# Altium footprint library Connectors THD.PcbLib: 18 footprints (part 1 of 2)
Each footprint in its own frame and in the unit in brackets; x right, y up, seen from the top. Pads: shape width x height; smd on the part's side, far side on the other; paste and mask are expansions set on the pad; w line width, h text height; cw(c..) or ccw(c..) is an arc to the next point about the centre after c.
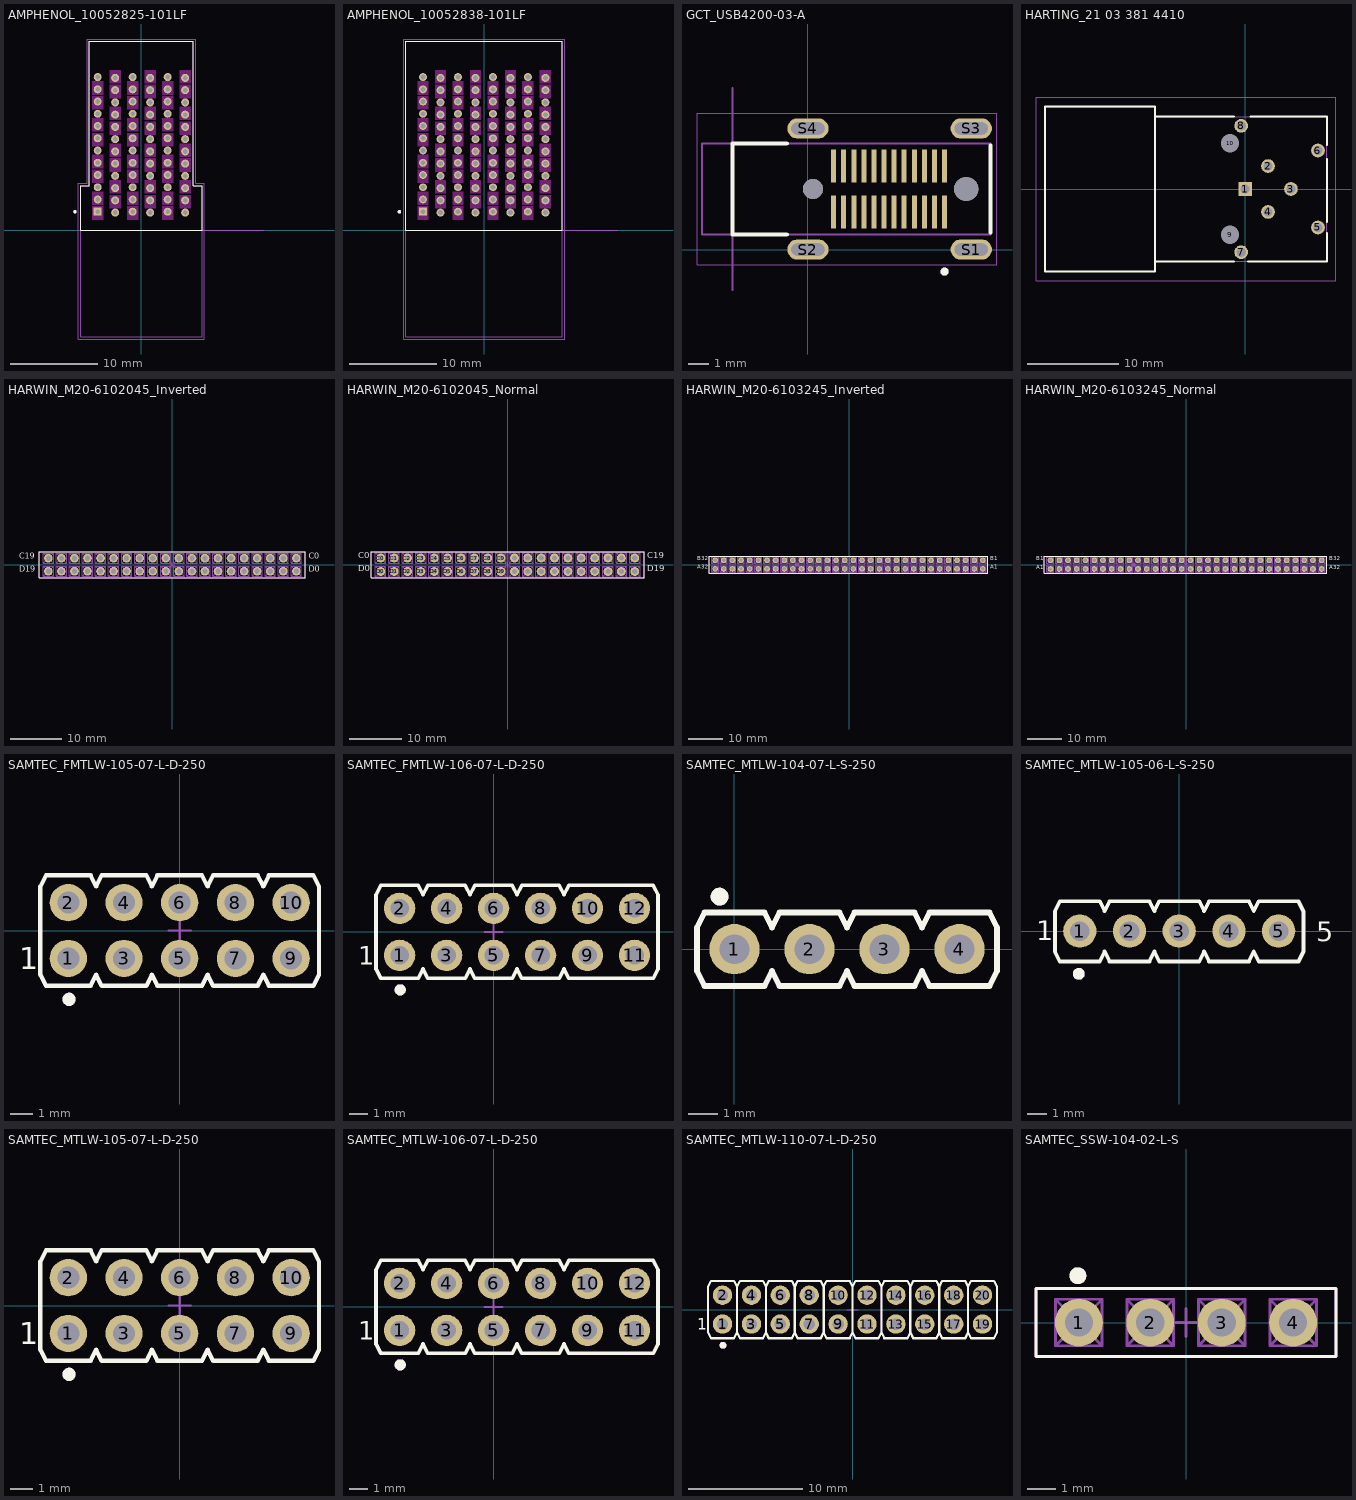
[diagram p0: the footprints below, top view; thin cyan lines are the x and y axes]

## AMPHENOL_10052825-101LF [mm]
height 15.35
pads (72):
  rect 0.914x0.914 / inner round 0.914 / far side rect 0.914x0.914 hole 0.55: A1(-5,2.1)
  round 0.914 hole 0.55: A2(-3,2) A3(-1,2.1) A4(1,2) A5(3,2.1) A6(5,2) B1(-5,3.5) B2(-3,3.4) B3(-1,3.5) B4(1,3.4) B5(3,3.5) B6(5,3.4) C1(-5,4.9) C2(-3,4.8) C3(-1,4.9) C4(1,4.8) C5(3,4.9) C6(5,4.8) D1(-5,6.3) D2(-3,6.2) D3(-1,6.3) D4(1,6.2) D5(3,6.3) D6(5,6.2) E1(-5,7.7) E2(-3,7.6) E3(-1,7.7) E4(1,7.6) E5(3,7.7) E6(5,7.6) F1(-5,9.1) F2(-3,9) F3(-1,9.1) F4(1,9) F5(3,9.1) F6(5,9) G1(-5,10.5) G2(-3,10.4) G3(-1,10.5) G4(1,10.4) G5(3,10.5) G6(5,10.4) H1(-5,11.9) H2(-3,11.8) H3(-1,11.9) H4(1,11.8) H5(3,11.9) H6(5,11.8) I1(-5,13.3) I2(-3,13.2) I3(-1,13.3) I4(1,13.2) I5(3,13.3) I6(5,13.2) J1(-5,14.7) J2(-3,14.6) J3(-1,14.7) J4(1,14.6) J5(3,14.7) J6(5,14.6) K1(-5,16.1) K2(-3,16) K3(-1,16.1) K4(1,16) K5(3,16.1) K6(5,16) L1(-5,17.5) L2(-3,17.4) L3(-1,17.5) L4(1,17.4) L5(3,17.5) L6(5,17.4)
Top Overlay:
  circle w0.2: c-7.6,2.1 r0.1
  lines w0.127: -6.95,0 6.95,0 6.95,5.1 5.95,5.1 5.95,21.6 -5.95,21.6 -5.95,5.1 -6.95,5.1 -6.95,0
Keep-Out Layer:
  drawing of 96 lines, arcs and shapes, not listed
Mechanical 13:
  circle w0.2: c-7.6,2.1 r0.1
  lines w0.127: 14,0 -6.95,0 ; -6.95,0 -6.95,-12.2 6.95,-12.2 6.95,5.1 5.95,5.1 5.95,21.6 -5.95,21.6 -5.95,5.1 -6.95,5.1 -6.95,0
  text "PCB Edge" at 7.3,0.25 h1
Mechanical 15:
  lines w0.05: -7.2,-12.45 7.2,-12.45 7.2,5.35 6.2,5.35 6.2,21.85 -6.2,21.85 -6.2,5.35 -7.2,5.35 -7.2,-12.45
3D body "step_temp.STEP": height 15.25, standoff -4.45, extent -6.95,-12.2 6.95,21.6

## AMPHENOL_10052838-101LF [mm]
height 15.35
pads (96):
  rect 0.914x0.914 / inner round 0.914 / far side rect 0.914x0.914 hole 0.55: A1(-7,2.1)
  round 0.914 hole 0.55: A2(-5,2) A3(-3,2.1) A4(-1,2) A5(1,2.1) A6(3,2) A7(5,2.1) A8(7,2) B1(-7,3.5) B2(-5,3.4) B3(-3,3.5) B4(-1,3.4) B5(1,3.5) B6(3,3.4) B7(5,3.5) B8(7,3.4) C1(-7,4.9) C2(-5,4.8) C3(-3,4.9) C4(-1,4.8) C5(1,4.9) C6(3,4.8) C7(5,4.9) C8(7,4.8) D1(-7,6.3) D2(-5,6.2) D3(-3,6.3) D4(-1,6.2) D5(1,6.3) D6(3,6.2) D7(5,6.3) D8(7,6.2) E1(-7,7.7) E2(-5,7.6) E3(-3,7.7) E4(-1,7.6) E5(1,7.7) E6(3,7.6) E7(5,7.7) E8(7,7.6) F1(-7,9.1) F2(-5,9) F3(-3,9.1) F4(-1,9) F5(1,9.1) F6(3,9) F7(5,9.1) F8(7,9) G1(-7,10.5) G2(-5,10.4) G3(-3,10.5) G4(-1,10.4) G5(1,10.5) G6(3,10.4) G7(5,10.5) G8(7,10.4) H1(-7,11.9) H2(-5,11.8) H3(-3,11.9) H4(-1,11.8) H5(1,11.9) H6(3,11.8) H7(5,11.9) H8(7,11.8) I1(-7,13.3) I2(-5,13.2) I3(-3,13.3) I4(-1,13.2) I5(1,13.3) I6(3,13.2) I7(5,13.3) I8(7,13.2) J1(-7,14.7) J2(-5,14.6) J3(-3,14.7) J4(-1,14.6) J5(1,14.7) J6(3,14.6) J7(5,14.7) J8(7,14.6) K1(-7,16.1) K2(-5,16) K3(-3,16.1) K4(-1,16) K5(1,16.1) K6(3,16) K7(5,16.1) K8(7,16) L1(-7,17.5) L2(-5,17.4) L3(-3,17.5) L4(-1,17.4) L5(1,17.5) L6(3,17.4) L7(5,17.5) L8(7,17.4)
Top Overlay:
  circle w0.2: c-9.7,2.1 r0.1
  lines w0.127: -8.95,0 8.95,0 8.95,21.6 -8.95,21.6 -8.95,0
Keep-Out Layer:
  drawing of 128 lines, arcs and shapes, not listed
Mechanical 13:
  circle w0.2: c-9.7,2.1 r0.1
  lines w0.127: 15.24,0 8.95,0 ; -8.95,0 8.89,0 8.95,0 ; -8.95,0 -8.95,-12.2 8.95,-12.2 8.95,0 ; -8.95,0 -8.95,21.6 8.95,21.6 8.95,0
  text "PCB Edge" at 9.5,0.25 h1
Mechanical 15:
  lines w0.05: -9.2,-12.45 9.2,-12.45 9.2,21.85 -9.2,21.85 -9.2,-12.45
3D body "step_temp.STEP": height 15.25, standoff -4.45, extent -8.95,-12.2 8.95,21.6

## GCT_USB4200-03-A [mm]
height 10.13
pads (30):
  rect 0.25x1.625 smd: A1(6.775,1.862) A2(6.275,1.862) A3(5.775,1.862) A4(5.275,1.862) A5(4.775,1.862) A6(4.275,1.862) A7(3.775,1.862) A8(3.275,1.862) A9(2.775,1.862) A10(2.275,1.862) A11(1.775,1.862) A12(1.275,1.862) B1(1.275,4.137) B2(1.775,4.137) B3(2.275,4.137) B4(2.775,4.137) B5(3.275,4.137) B6(3.775,4.137) B7(4.275,4.137) B8(4.775,4.137) B9(5.275,4.137) B10(5.775,4.137) B11(6.275,4.137) B12(6.775,4.137)
  oval 2.05x1 hole 0.6 slot 1.65 at 0 deg: S1(8.1,0) S2(0,0) S3(8.1,6) S4(0,6)
  round 1 hole 1 unplated: ""(0.25,3)
  round 1.2 hole 1.2 unplated: ""(7.85,3)
Top Overlay:
  circle w0.2: c6.775,-1.1 r0.1
  lines w0.2: -1.05,0.74 -3.75,0.74 -3.75,5.26 -1.05,5.26 ; 9.05,0.85 9.05,5.15
Mechanical 13:
  circle w0.2: c6.775,-1.1 r0.1
  lines w0.1: -3.75,-2 -3.75,8 ; -5.25,0.74 -5.25,5.26 9.05,5.26 9.05,0.74 -5.25,0.74
  text "PCB EDGE" at -3.45,-1 h0.81
Mechanical 15:
  lines w0.05: -5.5,-0.75 9.375,-0.75 9.375,6.75 -5.5,6.75 -5.5,-0.75
3D body "USB4200-03-A.stp": height 9.8, standoff -1.73, extent -5.259,-0.125 9.041,6.175

## HARTING_21 03 381 4410 [mm]
pads (10):
  rect 1.5x1.5 hole 1: 1(0,0)
  round 1.5 hole 1: 2(2.5,2.5) 3(5,0) 4(2.5,-2.5) 5(7.95,-4.2) 6(7.95,4.2) 7(-0.43,-6.9) 8(-0.43,6.9)
  round 1 hole 2 unplated: 9(-1.65,-5) 10(-1.65,5)
Top Overlay:
  lines w0.2: -1.2,-7.9 -9.83,-7.9 ; -1.2,7.9 -9.83,7.9 ; 0.3,-7.9 8.92,-7.9 8.92,-4.8 ; 0.6,7.9 8.92,7.9 8.92,4.8 ; 8.92,-3.6 8.92,3.3 ; -9.83,-7.9 -9.83,-9 -21.83,-9 -21.83,9 -9.83,9 -9.83,7.9 ; -9.83,-7.9 -9.83,7.9
Mechanical 13:
  lines w0.1: -9.83,-7.9 8.92,-7.9 8.92,7.9 -9.83,7.9 ; -9.83,-7.9 -9.83,7.9 ; -9.83,-7.9 -9.83,-9 -21.83,-9 -21.83,9 -9.83,9 -9.83,7.9
Mechanical 15:
  lines w0.1: -22.83,-10 9.92,-10 9.92,10 -22.83,10 -22.83,-10
3D body "21033814410.stp": height 14.87, standoff -3.25, extent -35.713,-9.5 8.92,9.5

## HARWIN_M20-6102045_Inverted [mm] "40 Ways, Dual Row, 2.54mm Pitch, PC/104 Stackthrough Connector"
height 11.05
pads (40):
  round 1.7 hole 1: C0(24.13,1.27) C1(21.59,1.27) C2(19.05,1.27) C3(16.51,1.27) C4(13.97,1.27) C5(11.43,1.27) C6(8.89,1.27) C7(6.35,1.27) C8(3.81,1.27) C9(1.27,1.27) C10(-1.27,1.27) C11(-3.81,1.27) C12(-6.35,1.27) C13(-8.89,1.27) C14(-11.43,1.27) C15(-13.97,1.27) C16(-16.51,1.27) C17(-19.05,1.27) C18(-21.59,1.27) C19(-24.13,1.27) D0(24.13,-1.27) D1(21.59,-1.27) D2(19.05,-1.27) D3(16.51,-1.27) D4(13.97,-1.27) D5(11.43,-1.27) D6(8.89,-1.27) D7(6.35,-1.27) D8(3.81,-1.27) D9(1.27,-1.27) D10(-1.27,-1.27) D11(-3.81,-1.27) D12(-6.35,-1.27) D13(-8.89,-1.27) D14(-11.43,-1.27) D15(-13.97,-1.27) D16(-16.51,-1.27) D17(-19.05,-1.27) D18(-21.59,-1.27) D19(-24.13,-1.27)
Top Overlay:
  lines w0.2: -25.91,-2.5 25.91,-2.5 25.91,2.5 -25.91,2.5 -25.91,-2.5
  text "C0" at 26.543,0.791 h2
  text "D0" at 26.543,-1.749 h2
  text "C19" at -29.845,0.791 h2
  text "D19" at -29.845,-1.749 h2
Mechanical 8:
  drawing of 164 lines, arcs and shapes, not listed
Mechanical 14:
  drawing of 484 lines, arcs and shapes, not listed
3D body "HARWIN_M20-6102045.stp": height 11.05, standoff -12.2, extent -25.91,-2.625 25.91,2.625

## HARWIN_M20-6102045_Normal [mm] "40 Ways, Dual Row, 2.54mm Pitch, PC/104 Stackthrough Connector"
height 11.05
pads (40):
  round 1.7 hole 1: C0(-24.13,1.27) C1(-21.59,1.27) C2(-19.05,1.27) C3(-16.51,1.27) C4(-13.97,1.27) C5(-11.43,1.27) C6(-8.89,1.27) C7(-6.35,1.27) C8(-3.81,1.27) C9(-1.27,1.27) C10(1.27,1.27) C11(3.81,1.27) C12(6.35,1.27) C13(8.89,1.27) C14(11.43,1.27) C15(13.97,1.27) C16(16.51,1.27) C17(19.05,1.27) C18(21.59,1.27) C19(24.13,1.27) D0(-24.13,-1.27) D1(-21.59,-1.27) D2(-19.05,-1.27) D3(-16.51,-1.27) D4(-13.97,-1.27) D5(-11.43,-1.27) D6(-8.89,-1.27) D7(-6.35,-1.27) D8(-3.81,-1.27) D9(-1.27,-1.27) D10(1.27,-1.27) D11(3.81,-1.27) D12(6.35,-1.27) D13(8.89,-1.27) D14(11.43,-1.27) D15(13.97,-1.27) D16(16.51,-1.27) D17(19.05,-1.27) D18(21.59,-1.27) D19(24.13,-1.27)
Top Overlay:
  lines w0.2: -25.91,-2.5 -25.91,2.5 25.91,2.5 25.91,-2.5 -25.91,-2.5
  text "C19" at 26.543,0.77 h2
  text "C0" at -28.448,0.783 h2
  text "D19" at 26.543,-1.749 h2
  text "D0" at -28.448,-1.749 h2
Mechanical 8:
  drawing of 164 lines, arcs and shapes, not listed
Mechanical 14:
  drawing of 484 lines, arcs and shapes, not listed
3D body "HARWIN_M20-6102045.stp": height 11.05, standoff -12.2, extent -25.91,-2.625 25.91,2.625

## HARWIN_M20-6103245_Inverted [mm] "64 Ways, Dual Row, 2.54mm Pitch, PC/104 Stackthrough Connector"
height 11.05
pads (64):
  round 1.7 hole 1: A1(39.37,-1.27) A2(36.83,-1.27) A3(34.29,-1.27) A4(31.75,-1.27) A5(29.21,-1.27) A6(26.67,-1.27) A7(24.13,-1.27) A8(21.59,-1.27) A9(19.05,-1.27) A10(16.51,-1.27) A11(13.97,-1.27) A12(11.43,-1.27) A13(8.89,-1.27) A14(6.35,-1.27) A15(3.81,-1.27) A16(1.27,-1.27) A17(-1.27,-1.27) A18(-3.81,-1.27) A19(-6.35,-1.27) A20(-8.89,-1.27) A21(-11.43,-1.27) A22(-13.97,-1.27) A23(-16.51,-1.27) A24(-19.05,-1.27) A25(-21.59,-1.27) A26(-24.13,-1.27) A27(-26.67,-1.27) A28(-29.21,-1.27) A29(-31.75,-1.27) A30(-34.29,-1.27) A31(-36.83,-1.27) A32(-39.37,-1.27) B1(39.37,1.27) B2(36.83,1.27) B3(34.29,1.27) B4(31.75,1.27) B5(29.21,1.27) B6(26.67,1.27) B7(24.13,1.27) B8(21.59,1.27) B9(19.05,1.27) B10(16.51,1.27) B11(13.97,1.27) B12(11.43,1.27) B13(8.89,1.27) B14(6.35,1.27) B15(3.81,1.27) B16(1.27,1.27) B17(-1.27,1.27) B18(-3.81,1.27) B19(-6.35,1.27) B20(-8.89,1.27) B21(-11.43,1.27) B22(-13.97,1.27) B23(-16.51,1.27) B24(-19.05,1.27) B25(-21.59,1.27) B26(-24.13,1.27) B27(-26.67,1.27) B28(-29.21,1.27) B29(-31.75,1.27) B30(-34.29,1.27) B31(-36.83,1.27) B32(-39.37,1.27)
Top Overlay:
  lines w0.2: -41.15,-2.5 -41.15,2.5 40.81,2.5 40.81,-2.5 -41.15,-2.5
  text "B1" at 41.528,0.87 h2
  text "A1" at 41.528,-1.67 h2
  text "A32" at -44.705,-1.647 h2
  text "B32" at -44.704,0.793 h2
Mechanical 8:
  drawing of 164 lines, arcs and shapes, not listed
Mechanical 14:
  drawing of 772 lines, arcs and shapes, not listed
3D body "HARWIN_M20-6103245.stp": height 11.06, standoff -12.36, extent -41.15,-2.5 40.79,2.5

## HARWIN_M20-6103245_Normal [mm] "64 Ways, Dual Row, 2.54mm Pitch, PC/104 Stackthrough Connector"
height 11.05
pads (64):
  round 1.7 hole 1: A1(-39.37,-1.27) A2(-36.83,-1.27) A3(-34.29,-1.27) A4(-31.75,-1.27) A5(-29.21,-1.27) A6(-26.67,-1.27) A7(-24.13,-1.27) A8(-21.59,-1.27) A9(-19.05,-1.27) A10(-16.51,-1.27) A11(-13.97,-1.27) A12(-11.43,-1.27) A13(-8.89,-1.27) A14(-6.35,-1.27) A15(-3.81,-1.27) A16(-1.27,-1.27) A17(1.27,-1.27) A18(3.81,-1.27) A19(6.35,-1.27) A20(8.89,-1.27) A21(11.43,-1.27) A22(13.97,-1.27) A23(16.51,-1.27) A24(19.05,-1.27) A25(21.59,-1.27) A26(24.13,-1.27) A27(26.67,-1.27) A28(29.21,-1.27) A29(31.75,-1.27) A30(34.29,-1.27) A31(36.83,-1.27) A32(39.37,-1.27) B1(-39.37,1.27) B2(-36.83,1.27) B3(-34.29,1.27) B4(-31.75,1.27) B5(-29.21,1.27) B6(-26.67,1.27) B7(-24.13,1.27) B8(-21.59,1.27) B9(-19.05,1.27) B10(-16.51,1.27) B11(-13.97,1.27) B12(-11.43,1.27) B13(-8.89,1.27) B14(-6.35,1.27) B15(-3.81,1.27) B16(-1.27,1.27) B17(1.27,1.27) B18(3.81,1.27) B19(6.35,1.27) B20(8.89,1.27) B21(11.43,1.27) B22(13.97,1.27) B23(16.51,1.27) B24(19.05,1.27) B25(21.59,1.27) B26(24.13,1.27) B27(26.67,1.27) B28(29.21,1.27) B29(31.75,1.27) B30(34.29,1.27) B31(36.83,1.27) B32(39.37,1.27)
Top Overlay:
  lines w0.2: -41.15,-2.5 -41.15,2.5 40.81,2.5 40.81,-2.5 -41.15,-2.5
  text "B1" at -43.561,0.77 h2
  text "A1" at -43.562,-1.77 h2
  text "A32" at 41.528,-1.776 h2
  text "B32" at 41.529,0.872 h2
Mechanical 8:
  drawing of 164 lines, arcs and shapes, not listed
Mechanical 14:
  drawing of 772 lines, arcs and shapes, not listed
3D body "HARWIN_M20-6103245.stp": height 11.06, standoff -12.36, extent -41.15,-2.5 40.79,2.5

## SAMTEC_FMTLW-105-07-L-D-250 [mm] "10 Sockets - Pitch 2.54mm - Dual Row Through Mount Straight Sockets (Post Lead = 6.35mm, Tail Lead 3.05mm, Insulator 1.52mm)"
height 7.87
pads (10):
  round 1.7 hole 1: 1(-5.08,-1.27) 2(-5.08,1.27) 3(-2.54,-1.27) 4(-2.54,1.27) 5(0,-1.27) 6(0,1.27) 7(2.54,-1.27) 8(2.54,1.27) 9(5.08,-1.27) 10(5.08,1.27)
Top Overlay:
  circle w0.3: c-5.045,-3.135 r0.15
  lines w0.2: -6.35,-2.007 -6.096,-2.515 -4.064,-2.515 -3.81,-2.007 -3.556,-2.515 -1.524,-2.515 -1.27,-2.007 -1.016,-2.515 1.016,-2.515 1.27,-2.007 1.524,-2.515 3.556,-2.515 3.81,-2.007 4.064,-2.515 6.096,-2.515 6.35,-2.007 6.35,2.007 6.096,2.515 4.064,2.515 3.81,2.007 3.556,2.515 1.524,2.515 1.27,2.007 1.016,2.515 -1.016,2.515 -1.27,2.007 -1.524,2.515 -3.556,2.515 -3.81,2.007 -4.064,2.515 -6.096,2.515 -6.35,2.007 -6.35,-2.007
  text "1" at -7.327,-1.768 h1
Mechanical 8:
  lines w0.1: -5.58,-1.27 -5.08,-1.27 ; -5.58,1.27 -5.08,1.27 ; -5.08,-1.77 -5.08,-1.27 ; -5.08,-0.77 -5.08,-1.27 ; -5.08,0.77 -5.08,1.27 ; -5.08,1.77 -5.08,1.27 ; -4.58,-1.27 -5.08,-1.27 ; -4.58,1.27 -5.08,1.27 ; -3.04,-1.27 -2.54,-1.27 ; -3.04,1.27 -2.54,1.27 ; -2.54,-1.77 -2.54,-1.27 ; -2.54,-0.77 -2.54,-1.27 ; -2.54,0.77 -2.54,1.27 ; -2.54,1.77 -2.54,1.27 ; -2.04,-1.27 -2.54,-1.27 ; -2.04,1.27 -2.54,1.27 ; -0.5,-1.27 0,-1.27 ; -0.5,0 0,0 ; -0.5,1.27 0,1.27 ; 0,-1.77 0,-1.27 ; 0,-0.77 0,-1.27 ; 0,-0.5 0,0 ; 0,0.5 0,0 ; 0,0.77 0,1.27 ; 0,1.77 0,1.27 ; 0.5,-1.27 0,-1.27 ; 0.5,0 0,0 ; 0.5,1.27 0,1.27 ; 2.04,-1.27 2.54,-1.27 ; 2.04,1.27 2.54,1.27 ; 2.54,-1.77 2.54,-1.27 ; 2.54,-0.77 2.54,-1.27 ; 2.54,0.77 2.54,1.27 ; 2.54,1.77 2.54,1.27 ; 3.04,-1.27 2.54,-1.27 ; 3.04,1.27 2.54,1.27 ; 4.58,-1.27 5.08,-1.27 ; 4.58,1.27 5.08,1.27 ; 5.08,-1.77 5.08,-1.27 ; 5.08,-0.77 5.08,-1.27 ; 5.08,0.77 5.08,1.27 ; 5.08,1.77 5.08,1.27 ; 5.58,-1.27 5.08,-1.27 ; 5.58,1.27 5.08,1.27
Mechanical 14:
  circle w0.3: c-5.045,-3.135 r0.15
  lines w0.1: -6.35,-2.007 -6.096,-2.515 -4.064,-2.515 -3.81,-2.007 -3.556,-2.515 -1.524,-2.515 -1.27,-2.007 -1.016,-2.515 1.016,-2.515 1.27,-2.007 1.524,-2.515 3.556,-2.515 3.81,-2.007 4.064,-2.515 6.096,-2.515 6.35,-2.007 6.35,2.007 6.096,2.515 4.064,2.515 3.81,2.007 3.556,2.515 1.524,2.515 1.27,2.007 1.016,2.515 -1.016,2.515 -1.27,2.007 -1.524,2.515 -3.556,2.515 -3.81,2.007 -4.064,2.515 -6.096,2.515 -6.35,2.007 -6.35,-2.007 ; -5.397,-1.587 -4.762,-1.587 -4.762,-0.953 -5.397,-0.953 -5.397,-1.587 ; -5.397,0.953 -4.762,0.953 -4.762,1.587 -5.397,1.587 -5.397,0.953 ; -2.857,-1.587 -2.222,-1.587 -2.222,-0.953 -2.857,-0.953 -2.857,-1.587 ; -2.857,0.953 -2.222,0.953 -2.222,1.587 -2.857,1.587 -2.857,0.953 ; -0.317,-1.587 0.318,-1.587 0.318,-0.953 -0.317,-0.953 -0.317,-1.587 ; -0.317,0.953 0.318,0.953 0.318,1.587 -0.317,1.587 -0.317,0.953 ; 2.223,-1.587 2.858,-1.587 2.858,-0.953 2.223,-0.953 2.223,-1.587 ; 2.223,0.953 2.858,0.953 2.858,1.587 2.223,1.587 2.223,0.953 ; 4.763,-1.587 5.398,-1.587 5.398,-0.953 4.763,-0.953 4.763,-1.587 ; 4.763,0.953 5.398,0.953 5.398,1.587 4.763,1.587 4.763,0.953
  text "1" at -7.327,-1.768 h1
3D body "SAMTEC_MTLW-105-07-L-D-250.stp": height 7.87, standoff -3.05, extent -6.35,-2.514 6.35,2.515

## SAMTEC_FMTLW-106-07-L-D-250 [mm] "12 Contacts - Pitch 2.54mm - Dual Row Through Mount Straight Sockets (Post Lead = 6.35mm, Tail Lead 3.05mm, Insulator 1.52mm)"
height 7.87
pads (12):
  round 1.7 hole 1: 1(-5.08,-1.27) 2(-5.08,1.27) 3(-2.54,-1.27) 4(-2.54,1.27) 5(0,-1.27) 6(0,1.27) 7(2.54,-1.27) 8(2.54,1.27) 9(5.08,-1.27) 10(5.08,1.27) 11(7.62,-1.27) 12(7.62,1.27)
Top Overlay:
  circle w0.3: c-5.045,-3.135 r0.15
  lines w0.2: -6.35,-2.007 -6.35,2.007 -6.096,2.515 -4.064,2.515 -3.81,2.007 -3.556,2.515 -1.524,2.515 -1.27,2.007 -1.016,2.515 1.016,2.515 1.27,2.007 1.524,2.515 3.556,2.515 3.81,2.007 4.064,2.515 8.636,2.515 8.89,2.007 8.89,-2.007 8.636,-2.515 4.064,-2.515 3.81,-2.007 3.556,-2.515 1.524,-2.515 1.27,-2.007 1.016,-2.515 -1.016,-2.515 -1.27,-2.007 -1.524,-2.515 -3.556,-2.515 -3.81,-2.007 -4.064,-2.515 -6.096,-2.515 -6.35,-2.007
  text "1" at -7.327,-1.768 h1
Mechanical 8:
  lines w0.1: -5.58,-1.27 -5.08,-1.27 ; -5.58,1.27 -5.08,1.27 ; -5.08,-1.77 -5.08,-1.27 ; -5.08,-0.77 -5.08,-1.27 ; -5.08,0.77 -5.08,1.27 ; -5.08,1.77 -5.08,1.27 ; -4.58,-1.27 -5.08,-1.27 ; -4.58,1.27 -5.08,1.27 ; -3.04,-1.27 -2.54,-1.27 ; -3.04,1.27 -2.54,1.27 ; -2.54,-1.77 -2.54,-1.27 ; -2.54,-0.77 -2.54,-1.27 ; -2.54,0.77 -2.54,1.27 ; -2.54,1.77 -2.54,1.27 ; -2.04,-1.27 -2.54,-1.27 ; -2.04,1.27 -2.54,1.27 ; -0.5,-1.27 0,-1.27 ; -0.5,0 0,0 ; -0.5,1.27 0,1.27 ; 0,-1.77 0,-1.27 ; 0,-0.77 0,-1.27 ; 0,-0.5 0,0 ; 0,0.5 0,0 ; 0,0.77 0,1.27 ; 0,1.77 0,1.27 ; 0.5,-1.27 0,-1.27 ; 0.5,0 0,0 ; 0.5,1.27 0,1.27 ; 2.04,-1.27 2.54,-1.27 ; 2.04,1.27 2.54,1.27 ; 2.54,-1.77 2.54,-1.27 ; 2.54,-0.77 2.54,-1.27 ; 2.54,0.77 2.54,1.27 ; 2.54,1.77 2.54,1.27 ; 3.04,-1.27 2.54,-1.27 ; 3.04,1.27 2.54,1.27 ; 4.58,-1.27 5.08,-1.27 ; 4.58,1.27 5.08,1.27 ; 5.08,-1.77 5.08,-1.27 ; 5.08,-0.77 5.08,-1.27 ; 5.08,0.77 5.08,1.27 ; 5.08,1.77 5.08,1.27 ; 5.58,-1.27 5.08,-1.27 ; 5.58,1.27 5.08,1.27
Mechanical 14:
  circle w0.3: c-5.045,-3.135 r0.15
  lines w0.1: 7.302,-1.587 7.938,-1.587 ; 7.302,-1.587 7.938,-1.587 ; 7.302,-1.587 7.302,-0.953 ; 7.302,-1.587 7.302,-0.953 ; 7.302,-0.953 7.938,-0.953 ; 7.302,-0.953 7.938,-0.953 ; 7.938,-1.587 7.938,-0.953 ; 7.938,-1.587 7.938,-0.953 ; -6.35,-2.007 -6.35,2.007 -6.096,2.515 -4.064,2.515 -3.81,2.007 -3.556,2.515 -1.524,2.515 -1.27,2.007 -1.016,2.515 1.016,2.515 1.27,2.007 1.524,2.515 3.556,2.515 3.81,2.007 4.064,2.515 8.636,2.515 8.89,2.007 8.89,-2.007 8.636,-2.515 4.064,-2.515 3.81,-2.007 3.556,-2.515 1.524,-2.515 1.27,-2.007 1.016,-2.515 -1.016,-2.515 -1.27,-2.007 -1.524,-2.515 -3.556,-2.515 -3.81,-2.007 -4.064,-2.515 -6.096,-2.515 -6.35,-2.007 ; -5.397,-1.587 -5.397,-0.953 -4.762,-0.953 -4.762,-1.587 -5.397,-1.587 ; -5.397,0.953 -5.397,1.587 -4.762,1.587 -4.762,0.953 -5.397,0.953 ; -2.857,-1.587 -2.857,-0.953 -2.222,-0.953 -2.222,-1.587 -2.857,-1.587 ; -2.857,0.953 -2.857,1.587 -2.222,1.587 -2.222,0.953 -2.857,0.953 ; -0.317,-1.587 -0.317,-0.953 0.318,-0.953 0.318,-1.587 -0.317,-1.587 ; -0.317,0.953 -0.317,1.587 0.318,1.587 0.318,0.953 -0.317,0.953 ; 2.223,-1.587 2.223,-0.953 2.858,-0.953 2.858,-1.587 2.223,-1.587 ; 2.223,0.953 2.223,1.587 2.858,1.587 2.858,0.953 2.223,0.953 ; 4.763,-1.587 4.763,-0.953 5.398,-0.953 5.398,-1.587 4.763,-1.587 ; 4.763,0.953 4.763,1.587 5.398,1.587 5.398,0.953 4.763,0.953 ; 7.302,0.953 7.302,1.587 7.938,1.587 7.938,0.953 7.302,0.953
  text "1" at -7.327,-1.768 h1
3D body "SAMTEC_MTLW-105-07-L-D-250.stp": height 7.87, standoff -3.05, extent -6.35,-2.514 6.35,2.515

## SAMTEC_MTLW-104-07-L-S-250 [mm] "4 Contacts - Pitch 2.54mm - Single Row Through Mount Straight Header (Post Lead = 6.35mm, Tail Lead 3.05mm, Insulator 1.52mm)"
height 7.87
pads (4):
  round 1.7 hole 1: 1(0,0) 2(2.54,0) 3(5.08,0) 4(7.62,0)
Top Overlay:
  circle w0.3: c-0.508,1.778 r0.15
  lines w0.2: -1.27,-0.737 -1.27,0.737 -1.016,1.245 1.016,1.245 1.27,0.737 1.524,1.245 3.556,1.245 3.81,0.737 4.064,1.245 6.096,1.245 6.35,0.737 6.604,1.245 8.636,1.245 8.89,0.737 8.89,-0.737 8.636,-1.245 6.604,-1.245 6.35,-0.737 6.096,-1.245 4.064,-1.245 3.81,-0.737 3.556,-1.245 1.524,-1.245 1.27,-0.737 1.016,-1.245 -1.016,-1.245 -1.27,-0.737
Mechanical 8:
  lines w0.1: -0.5,0 0,0 ; 0,-0.5 0,0 ; 0,0.5 0,0 ; 0.5,0 0,0 ; 2.04,0 2.54,0 ; 2.54,-0.5 2.54,0 ; 2.54,0.5 2.54,0 ; 3.04,0 2.54,0 ; 4.58,0 5.08,0 ; 5.08,-0.5 5.08,0 ; 5.08,0.5 5.08,0 ; 5.58,0 5.08,0 ; 7.12,0 7.62,0 ; 7.62,-0.5 7.62,0 ; 7.62,0.5 7.62,0 ; 8.12,0 7.62,0
Mechanical 14:
  circle w0.3: c-0.508,1.778 r0.15
  lines w0.1: -1.27,-0.737 -1.27,0.737 -1.016,1.245 1.016,1.245 1.27,0.737 1.524,1.245 3.556,1.245 3.81,0.737 4.064,1.245 6.096,1.245 6.35,0.737 6.604,1.245 8.636,1.245 8.89,0.737 8.89,-0.737 8.636,-1.245 6.604,-1.245 6.35,-0.737 6.096,-1.245 4.064,-1.245 3.81,-0.737 3.556,-1.245 1.524,-1.245 1.27,-0.737 1.016,-1.245 -1.016,-1.245 -1.27,-0.737 ; -0.317,-0.318 -0.317,0.318 0.318,0.318 0.318,-0.318 -0.317,-0.318 ; 2.223,-0.318 2.223,0.318 2.858,0.318 2.858,-0.318 2.223,-0.318 ; 4.763,-0.318 4.763,0.318 5.398,0.318 5.398,-0.318 4.763,-0.318 ; 7.303,-0.318 7.303,0.318 7.938,0.318 7.938,-0.318 7.303,-0.318
3D body "SAMTEC_MTLW-104-07-L-S-250.stp": height 7.87, standoff -3.05, extent -1.27,-1.244 8.89,1.245

## SAMTEC_MTLW-105-06-L-S-250 [mm] "10 Contacts - Pitch 2.54mm - Dual Row Through Mount Straight Header (Post Lead = 6.35mm, Tail Lead 3.05mm, Insulator 1.52mm)"
height 7.87
pads (5):
  round 1.7 hole 1: 1(-5.08,0) 2(-2.54,0) 3(0,0) 4(2.54,0) 5(5.08,0)
Top Overlay:
  circle w0.3: c-5.131,-2.184 r0.15
  lines w0.2: -6.35,-1.041 -6.096,-1.549 -4.064,-1.549 -3.81,-1.041 -3.556,-1.549 -1.524,-1.549 -1.27,-1.041 -1.016,-1.549 1.016,-1.549 1.27,-1.041 1.524,-1.549 3.556,-1.549 3.81,-1.041 4.064,-1.549 6.096,-1.549 6.35,-1.041 ; -6.35,-1.003 -6.35,1.003 -6.096,1.511 ; -6.096,1.524 -4.064,1.524 -3.81,1.016 -3.556,1.524 -1.524,1.524 -1.27,1.016 -1.016,1.524 1.016,1.524 1.27,1.016 1.524,1.524 3.556,1.524 3.81,1.016 4.064,1.524 6.096,1.524 ; 6.096,1.511 6.35,1.003 6.35,-1.003
  text "1" at -7.315,-0.457 h1
  text "5" at 7.01,-0.508 h1
Mechanical 8:
  lines w0.1: -5.58,0 -5.08,0 ; -5.08,-0.508 -5.08,0 ; -5.08,0.508 -5.08,0 ; -4.58,0 -5.08,0 ; -3.04,0 -2.54,0 ; -2.54,-0.5 -2.54,0 ; -2.54,0.5 -2.54,0 ; -2.04,0 -2.54,0 ; -0.5,0 0,0 ; 0,-0.5 0,0 ; 0,0.5 0,0 ; 0.5,0 0,0 ; 2.04,0 2.54,0 ; 2.54,-0.5 2.54,0 ; 2.54,0.5 2.54,0 ; 3.04,0 2.54,0 ; 4.58,0 5.08,0 ; 5.08,-0.5 5.08,0 ; 5.08,0.5 5.08,0 ; 5.58,0 5.08,0
Mechanical 14:
  circle w0.3: c-5.131,-2.184 r0.15
  lines w0.1: -6.35,-1.041 -6.35,1.016 -6.096,1.524 -4.064,1.524 -3.81,1.016 -3.556,1.524 -1.524,1.524 -1.27,1.016 -1.016,1.524 1.016,1.524 1.27,1.016 1.524,1.524 3.556,1.524 3.81,1.016 4.064,1.524 6.096,1.524 6.35,1.016 6.35,-1.041 6.096,-1.549 4.064,-1.549 3.81,-1.041 3.556,-1.549 1.524,-1.549 1.27,-1.041 1.016,-1.549 -1.016,-1.549 -1.27,-1.041 -1.524,-1.549 -3.556,-1.549 -3.81,-1.041 -4.064,-1.549 -6.096,-1.549 -6.35,-1.041 ; -5.397,-0.318 -5.397,0.318 -4.762,0.318 -4.762,-0.318 -5.397,-0.318 ; -2.857,-0.318 -2.857,0.318 -2.222,0.318 -2.222,-0.318 -2.857,-0.318 ; -0.317,-0.318 0.318,-0.318 0.318,0.318 -0.317,0.318 -0.317,-0.318 ; 2.223,-0.318 2.858,-0.318 2.858,0.318 2.223,0.318 2.223,-0.318 ; 4.763,-0.318 5.398,-0.318 5.398,0.318 4.763,0.318 4.763,-0.318
  text "1" at -7.315,-0.457 h1
  text "5" at 7.01,-0.508 h1

## SAMTEC_MTLW-105-07-L-D-250 [mm] "10 Contacts - Pitch 2.54mm - Dual Row Through Mount Straight Header (Post Lead = 6.35mm, Tail Lead 3.05mm, Insulator 1.52mm)"
height 7.87
pads (10):
  round 1.7 hole 1: 1(-5.08,-1.27) 2(-5.08,1.27) 3(-2.54,-1.27) 4(-2.54,1.27) 5(0,-1.27) 6(0,1.27) 7(2.54,-1.27) 8(2.54,1.27) 9(5.08,-1.27) 10(5.08,1.27)
Top Overlay:
  circle w0.3: c-5.045,-3.135 r0.15
  lines w0.2: -6.35,-2.007 -6.096,-2.515 -4.064,-2.515 -3.81,-2.007 -3.556,-2.515 -1.524,-2.515 -1.27,-2.007 -1.016,-2.515 1.016,-2.515 1.27,-2.007 1.524,-2.515 3.556,-2.515 3.81,-2.007 4.064,-2.515 6.096,-2.515 6.35,-2.007 6.35,2.007 6.096,2.515 4.064,2.515 3.81,2.007 3.556,2.515 1.524,2.515 1.27,2.007 1.016,2.515 -1.016,2.515 -1.27,2.007 -1.524,2.515 -3.556,2.515 -3.81,2.007 -4.064,2.515 -6.096,2.515 -6.35,2.007 -6.35,-2.007
  text "1" at -7.327,-1.768 h1
Mechanical 8:
  lines w0.1: -5.58,-1.27 -5.08,-1.27 ; -5.58,1.27 -5.08,1.27 ; -5.08,-1.77 -5.08,-1.27 ; -5.08,-0.77 -5.08,-1.27 ; -5.08,0.77 -5.08,1.27 ; -5.08,1.77 -5.08,1.27 ; -4.58,-1.27 -5.08,-1.27 ; -4.58,1.27 -5.08,1.27 ; -3.04,-1.27 -2.54,-1.27 ; -3.04,1.27 -2.54,1.27 ; -2.54,-1.77 -2.54,-1.27 ; -2.54,-0.77 -2.54,-1.27 ; -2.54,0.77 -2.54,1.27 ; -2.54,1.77 -2.54,1.27 ; -2.04,-1.27 -2.54,-1.27 ; -2.04,1.27 -2.54,1.27 ; -0.5,-1.27 0,-1.27 ; -0.5,0 0,0 ; -0.5,1.27 0,1.27 ; 0,-1.77 0,-1.27 ; 0,-0.77 0,-1.27 ; 0,-0.5 0,0 ; 0,0.5 0,0 ; 0,0.77 0,1.27 ; 0,1.77 0,1.27 ; 0.5,-1.27 0,-1.27 ; 0.5,0 0,0 ; 0.5,1.27 0,1.27 ; 2.04,-1.27 2.54,-1.27 ; 2.04,1.27 2.54,1.27 ; 2.54,-1.77 2.54,-1.27 ; 2.54,-0.77 2.54,-1.27 ; 2.54,0.77 2.54,1.27 ; 2.54,1.77 2.54,1.27 ; 3.04,-1.27 2.54,-1.27 ; 3.04,1.27 2.54,1.27 ; 4.58,-1.27 5.08,-1.27 ; 4.58,1.27 5.08,1.27 ; 5.08,-1.77 5.08,-1.27 ; 5.08,-0.77 5.08,-1.27 ; 5.08,0.77 5.08,1.27 ; 5.08,1.77 5.08,1.27 ; 5.58,-1.27 5.08,-1.27 ; 5.58,1.27 5.08,1.27
Mechanical 14:
  circle w0.3: c-5.045,-3.135 r0.15
  lines w0.1: -6.35,-2.007 -6.096,-2.515 -4.064,-2.515 -3.81,-2.007 -3.556,-2.515 -1.524,-2.515 -1.27,-2.007 -1.016,-2.515 1.016,-2.515 1.27,-2.007 1.524,-2.515 3.556,-2.515 3.81,-2.007 4.064,-2.515 6.096,-2.515 6.35,-2.007 6.35,2.007 6.096,2.515 4.064,2.515 3.81,2.007 3.556,2.515 1.524,2.515 1.27,2.007 1.016,2.515 -1.016,2.515 -1.27,2.007 -1.524,2.515 -3.556,2.515 -3.81,2.007 -4.064,2.515 -6.096,2.515 -6.35,2.007 -6.35,-2.007 ; -5.397,-1.587 -4.762,-1.587 -4.762,-0.953 -5.397,-0.953 -5.397,-1.587 ; -5.397,0.953 -4.762,0.953 -4.762,1.587 -5.397,1.587 -5.397,0.953 ; -2.857,-1.587 -2.222,-1.587 -2.222,-0.953 -2.857,-0.953 -2.857,-1.587 ; -2.857,0.953 -2.222,0.953 -2.222,1.587 -2.857,1.587 -2.857,0.953 ; -0.317,-1.587 0.318,-1.587 0.318,-0.953 -0.317,-0.953 -0.317,-1.587 ; -0.317,0.953 0.318,0.953 0.318,1.587 -0.317,1.587 -0.317,0.953 ; 2.223,-1.587 2.858,-1.587 2.858,-0.953 2.223,-0.953 2.223,-1.587 ; 2.223,0.953 2.858,0.953 2.858,1.587 2.223,1.587 2.223,0.953 ; 4.763,-1.587 5.398,-1.587 5.398,-0.953 4.763,-0.953 4.763,-1.587 ; 4.763,0.953 5.398,0.953 5.398,1.587 4.763,1.587 4.763,0.953
  text "1" at -7.327,-1.768 h1
3D body "SAMTEC_MTLW-105-07-L-D-250.stp": height 7.87, standoff -3.05, extent -6.35,-2.514 6.35,2.515

## SAMTEC_MTLW-106-07-L-D-250 [mm] "12 Contacts - Pitch 2.54mm - Dual Row Through Mount Straight Header (Post Lead = 6.35mm, Tail Lead 3.05mm, Insulator 1.52mm)"
height 7.87
pads (12):
  round 1.7 hole 1: 1(-5.08,-1.27) 2(-5.08,1.27) 3(-2.54,-1.27) 4(-2.54,1.27) 5(0,-1.27) 6(0,1.27) 7(2.54,-1.27) 8(2.54,1.27) 9(5.08,-1.27) 10(5.08,1.27) 11(7.62,-1.27) 12(7.62,1.27)
Top Overlay:
  circle w0.3: c-5.045,-3.135 r0.15
  lines w0.2: -6.35,-2.007 -6.096,-2.515 -4.064,-2.515 -3.81,-2.007 -3.556,-2.515 -1.524,-2.515 -1.27,-2.007 -1.016,-2.515 1.016,-2.515 1.27,-2.007 1.524,-2.515 3.556,-2.515 3.81,-2.007 4.064,-2.515 8.636,-2.515 8.89,-2.007 8.89,2.007 8.636,2.515 4.064,2.515 3.81,2.007 3.556,2.515 1.524,2.515 1.27,2.007 1.016,2.515 -1.016,2.515 -1.27,2.007 -1.524,2.515 -3.556,2.515 -3.81,2.007 -4.064,2.515 -6.096,2.515 -6.35,2.007 -6.35,-2.007
  text "1" at -7.327,-1.768 h1
Mechanical 8:
  lines w0.1: -5.58,-1.27 -5.08,-1.27 ; -5.58,1.27 -5.08,1.27 ; -5.08,-1.77 -5.08,-1.27 ; -5.08,-0.77 -5.08,-1.27 ; -5.08,0.77 -5.08,1.27 ; -5.08,1.77 -5.08,1.27 ; -4.58,-1.27 -5.08,-1.27 ; -4.58,1.27 -5.08,1.27 ; -3.04,-1.27 -2.54,-1.27 ; -3.04,1.27 -2.54,1.27 ; -2.54,-1.77 -2.54,-1.27 ; -2.54,-0.77 -2.54,-1.27 ; -2.54,0.77 -2.54,1.27 ; -2.54,1.77 -2.54,1.27 ; -2.04,-1.27 -2.54,-1.27 ; -2.04,1.27 -2.54,1.27 ; -0.5,-1.27 0,-1.27 ; -0.5,0 0,0 ; -0.5,1.27 0,1.27 ; 0,-1.77 0,-1.27 ; 0,-0.77 0,-1.27 ; 0,-0.5 0,0 ; 0,0.5 0,0 ; 0,0.77 0,1.27 ; 0,1.77 0,1.27 ; 0.5,-1.27 0,-1.27 ; 0.5,0 0,0 ; 0.5,1.27 0,1.27 ; 2.04,-1.27 2.54,-1.27 ; 2.04,1.27 2.54,1.27 ; 2.54,-1.77 2.54,-1.27 ; 2.54,-0.77 2.54,-1.27 ; 2.54,0.77 2.54,1.27 ; 2.54,1.77 2.54,1.27 ; 3.04,-1.27 2.54,-1.27 ; 3.04,1.27 2.54,1.27 ; 4.58,-1.27 5.08,-1.27 ; 4.58,1.27 5.08,1.27 ; 5.08,-1.77 5.08,-1.27 ; 5.08,-0.77 5.08,-1.27 ; 5.08,0.77 5.08,1.27 ; 5.08,1.77 5.08,1.27 ; 5.58,-1.27 5.08,-1.27 ; 5.58,1.27 5.08,1.27
Mechanical 14:
  circle w0.3: c-5.045,-3.135 r0.15
  lines w0.1: 7.302,-1.587 7.302,-0.953 ; 7.302,-1.587 7.302,-0.953 ; 7.302,-1.587 7.938,-1.587 ; 7.302,-1.587 7.938,-1.587 ; 7.302,-0.953 7.938,-0.953 ; 7.302,-0.953 7.938,-0.953 ; 7.938,-1.587 7.938,-0.953 ; 7.938,-1.587 7.938,-0.953 ; -6.35,-2.007 -6.096,-2.515 -4.064,-2.515 -3.81,-2.007 -3.556,-2.515 -1.524,-2.515 -1.27,-2.007 -1.016,-2.515 1.016,-2.515 1.27,-2.007 1.524,-2.515 3.556,-2.515 3.81,-2.007 4.064,-2.515 8.636,-2.515 8.89,-2.007 8.89,2.007 8.636,2.515 4.064,2.515 3.81,2.007 3.556,2.515 1.524,2.515 1.27,2.007 1.016,2.515 -1.016,2.515 -1.27,2.007 -1.524,2.515 -3.556,2.515 -3.81,2.007 -4.064,2.515 -6.096,2.515 -6.35,2.007 -6.35,-2.007 ; -5.397,-1.587 -4.762,-1.587 -4.762,-0.953 -5.397,-0.953 -5.397,-1.587 ; -5.397,0.953 -4.762,0.953 -4.762,1.587 -5.397,1.587 -5.397,0.953 ; -2.857,-1.587 -2.222,-1.587 -2.222,-0.953 -2.857,-0.953 -2.857,-1.587 ; -2.857,0.953 -2.222,0.953 -2.222,1.587 -2.857,1.587 -2.857,0.953 ; -0.317,-1.587 0.318,-1.587 0.318,-0.953 -0.317,-0.953 -0.317,-1.587 ; -0.317,0.953 0.318,0.953 0.318,1.587 -0.317,1.587 -0.317,0.953 ; 2.223,-1.587 2.858,-1.587 2.858,-0.953 2.223,-0.953 2.223,-1.587 ; 2.223,0.953 2.858,0.953 2.858,1.587 2.223,1.587 2.223,0.953 ; 4.763,-1.587 5.398,-1.587 5.398,-0.953 4.763,-0.953 4.763,-1.587 ; 4.763,0.953 5.398,0.953 5.398,1.587 4.763,1.587 4.763,0.953 ; 7.302,0.953 7.938,0.953 7.938,1.587 7.302,1.587 7.302,0.953
  text "1" at -7.327,-1.768 h1
3D body "SAMTEC_MTLW-105-07-L-D-250.stp": height 7.87, standoff -3.05, extent -6.35,-2.514 6.35,2.515

## SAMTEC_MTLW-110-07-L-D-250 [mm] "20 Contacts - Pitch 2.54mm - Dual Row Through Mount Straight Header (Post Lead = 6.35mm, Tail Lead 3.05mm, Insulator 1.52mm)"
height 7.87
pads (20):
  round 1.7 hole 1: 1(-11.43,-1.27) 2(-11.43,1.27) 3(-8.89,-1.27) 4(-8.89,1.27) 5(-6.35,-1.27) 6(-6.35,1.27) 7(-3.81,-1.27) 8(-3.81,1.27) 9(-1.27,-1.27) 10(-1.27,1.27) 11(1.27,-1.27) 12(1.27,1.27) 13(3.81,-1.27) 14(3.81,1.27) 15(6.35,-1.27) 16(6.35,1.27) 17(8.89,-1.27) 18(8.89,1.27) 19(11.43,-1.27) 20(11.43,1.27)
Top Overlay:
  circle w0.3: c-11.395,-3.135 r0.15
  lines w0.2: -10.16,-2.007 -9.906,-2.515 -7.874,-2.515 -7.62,-2.007 ; -10.16,-2.007 -10.16,2.007 ; -10.16,-2.007 -10.16,2.007 ; -10.16,-2.007 -10.414,-2.515 -12.446,-2.515 -12.7,-2.007 -12.7,2.007 -12.446,2.515 -10.414,2.515 -10.16,2.007 ; -10.16,2.007 -9.906,2.515 -7.874,2.515 -7.62,2.007 ; -7.62,-2.007 -7.366,-2.515 -5.334,-2.515 -5.08,-2.007 ; -7.62,-2.007 -7.62,2.007 ; -7.62,-2.007 -7.62,2.007 ; -7.62,2.007 -7.366,2.515 -5.334,2.515 -5.08,2.007 ; -5.08,-2.007 -5.08,2.007 ; -5.08,-2.007 -4.826,-2.515 -2.794,-2.515 -2.54,-2.007 ; -5.08,-2.007 -5.08,2.007 ; -5.08,2.007 -4.826,2.515 -2.794,2.515 -2.54,2.007 ; -2.54,-2.007 -2.54,2.007 ; -2.54,-2.007 -2.286,-2.515 -0.254,-2.515 0,-2.007 ; -2.54,-2.007 -2.54,2.007 ; -2.54,2.007 -2.286,2.515 -0.254,2.515 0,2.007 ; 0,-2.007 0,2.007 ; 0,-2.007 0.254,-2.515 2.286,-2.515 2.54,-2.007 ; 0,-2.007 0,2.007 ; 0,2.007 0.254,2.515 2.286,2.515 2.54,2.007 ; 2.54,-2.007 2.794,-2.515 4.826,-2.515 5.08,-2.007 ; 2.54,-2.007 2.54,2.007 ; 2.54,-2.007 2.54,2.007 ; 2.54,2.007 2.794,2.515 4.826,2.515 5.08,2.007 ; 5.08,-2.007 5.334,-2.515 7.366,-2.515 7.62,-2.007 ; 5.08,-2.007 5.08,2.007 ; 5.08,-2.007 5.08,2.007 ; 5.08,2.007 5.334,2.515 7.366,2.515 7.62,2.007 ; 7.62,-2.007 7.62,2.007 ; 7.62,-2.007 7.874,-2.515 9.906,-2.515 10.16,-2.007 ; 7.62,-2.007 7.62,2.007 ; 7.62,2.007 7.874,2.515 9.906,2.515 10.16,2.007 ; 10.16,-2.007 10.16,2.007 ; 10.16,-2.007 10.414,-2.515 12.446,-2.515 12.7,-2.007 12.7,2.007 12.446,2.515 10.414,2.515 10.16,2.007 ; 10.16,-2.007 10.16,2.007
  text "1" at -13.677,-1.768 h1
Mechanical 8:
  lines w0.1: -11.93,-1.27 -11.43,-1.27 ; -11.93,1.27 -11.43,1.27 ; -11.43,-1.77 -11.43,-1.27 ; -11.43,-0.77 -11.43,-1.27 ; -11.43,0.77 -11.43,1.27 ; -11.43,1.77 -11.43,1.27 ; -10.93,-1.27 -11.43,-1.27 ; -10.93,1.27 -11.43,1.27 ; -9.39,-1.27 -8.89,-1.27 ; -9.39,1.27 -8.89,1.27 ; -8.89,-1.77 -8.89,-1.27 ; -8.89,-0.77 -8.89,-1.27 ; -8.89,0.77 -8.89,1.27 ; -8.89,1.77 -8.89,1.27 ; -8.39,-1.27 -8.89,-1.27 ; -8.39,1.27 -8.89,1.27 ; -6.85,-1.27 -6.35,-1.27 ; -6.85,1.27 -6.35,1.27 ; -6.35,-1.77 -6.35,-1.27 ; -6.35,-0.77 -6.35,-1.27 ; -6.35,0.77 -6.35,1.27 ; -6.35,1.77 -6.35,1.27 ; -5.85,-1.27 -6.35,-1.27 ; -5.85,1.27 -6.35,1.27 ; -4.31,-1.27 -3.81,-1.27 ; -4.31,1.27 -3.81,1.27 ; -3.81,-1.77 -3.81,-1.27 ; -3.81,-0.77 -3.81,-1.27 ; -3.81,0.77 -3.81,1.27 ; -3.81,1.77 -3.81,1.27 ; -3.31,-1.27 -3.81,-1.27 ; -3.31,1.27 -3.81,1.27 ; -1.77,-1.27 -1.27,-1.27 ; -1.77,1.27 -1.27,1.27 ; -1.27,-1.77 -1.27,-1.27 ; -1.27,-0.77 -1.27,-1.27 ; -1.27,0.77 -1.27,1.27 ; -1.27,1.77 -1.27,1.27 ; -0.77,-1.27 -1.27,-1.27 ; -0.77,1.27 -1.27,1.27 ; -0.5,0 0,0 ; 0,-0.5 0,0 ; 0,0.5 0,0 ; 0.5,0 0,0 ; 0.77,-1.27 1.27,-1.27 ; 0.77,1.27 1.27,1.27 ; 1.27,-1.77 1.27,-1.27 ; 1.27,-0.77 1.27,-1.27 ; 1.27,0.77 1.27,1.27 ; 1.27,1.77 1.27,1.27 ; 1.77,-1.27 1.27,-1.27 ; 1.77,1.27 1.27,1.27 ; 3.31,-1.27 3.81,-1.27 ; 3.31,1.27 3.81,1.27 ; 3.81,-1.77 3.81,-1.27 ; 3.81,-0.77 3.81,-1.27 ; 3.81,0.77 3.81,1.27 ; 3.81,1.77 3.81,1.27 ; 4.31,-1.27 3.81,-1.27 ; 4.31,1.27 3.81,1.27 ; 5.85,-1.27 6.35,-1.27 ; 5.85,1.27 6.35,1.27 ; 6.35,-1.77 6.35,-1.27 ; 6.35,-0.77 6.35,-1.27 ; 6.35,0.77 6.35,1.27 ; 6.35,1.77 6.35,1.27 ; 6.85,-1.27 6.35,-1.27 ; 6.85,1.27 6.35,1.27 ; 8.39,-1.27 8.89,-1.27 ; 8.39,1.27 8.89,1.27 ; 8.89,-1.77 8.89,-1.27 ; 8.89,-0.77 8.89,-1.27 ; 8.89,0.77 8.89,1.27 ; 8.89,1.77 8.89,1.27 ; 9.39,-1.27 8.89,-1.27 ; 9.39,1.27 8.89,1.27 ; 10.93,-1.27 11.43,-1.27 ; 10.93,1.27 11.43,1.27 ; 11.43,-1.77 11.43,-1.27 ; 11.43,-0.77 11.43,-1.27 ; 11.43,0.77 11.43,1.27 ; 11.43,1.77 11.43,1.27 ; 11.93,-1.27 11.43,-1.27 ; 11.93,1.27 11.43,1.27
Mechanical 14:
  drawing of 161 lines, arcs and shapes, not listed
  text "1" at -13.677,-1.768 h1
3D body "SAMTEC_MTLW-110-07-L-D-250.stp": height 7.87, standoff -3.05, extent -12.7,-2.514 12.7,2.515

## SAMTEC_SSW-104-02-L-S [mm] "4 Contacts, Pitch 2.54mm - Top Entry, Single Row, Through Mount Straigh Socket"
height 8.5
pads (4):
  round 1.7 hole 1: 1(-3.81,0) 2(-1.27,0) 3(1.27,0) 4(3.81,0)
Top Overlay:
  circle w0.3: c-3.845,1.665 r0.15
  lines w0.1: -5.334,-1.206 -5.334,1.206 5.334,1.206 5.334,-1.206 -5.334,-1.206
Mechanical 8:
  lines w0.1: -4.31,0 -3.81,0 ; -3.81,-0.5 -3.81,0 ; -3.81,0.5 -3.81,0 ; -3.31,0 -3.81,0 ; -1.77,0 -1.27,0 ; -1.27,-0.5 -1.27,0 ; -1.27,0.5 -1.27,0 ; -0.77,0 -1.27,0 ; -0.5,0 0,0 ; 0,-0.5 0,0 ; 0,0.5 0,0 ; 0.5,0 0,0 ; 0.77,0 1.27,0 ; 1.27,-0.5 1.27,0 ; 1.27,0.5 1.27,0 ; 1.77,0 1.27,0 ; 3.31,0 3.81,0 ; 3.81,-0.5 3.81,0 ; 3.81,0.5 3.81,0 ; 4.31,0 3.81,0
Mechanical 14:
  circle w0.3: c-3.845,1.665 r0.15
  lines w0.1: -4.636,-0.826 -4.204,-0.394 ; -4.636,-0.826 -4.636,0.826 ; -4.636,-0.826 -2.985,-0.826 ; -4.636,0.826 -4.204,0.394 ; -4.636,0.826 -2.985,0.826 ; -4.204,-0.394 -4.204,0.394 ; -4.204,-0.394 -3.416,-0.394 ; -4.204,0.394 -3.416,0.394 ; -3.416,-0.394 -2.985,-0.826 ; -3.416,-0.394 -3.416,0.394 ; -3.416,0.394 -2.985,0.826 ; -2.985,-0.826 -2.985,0.826 ; -2.095,-0.826 -1.664,-0.394 ; -2.095,-0.826 -2.095,0.826 ; -2.095,-0.826 -0.445,-0.826 ; -2.095,0.826 -1.664,0.394 ; -2.095,0.826 -0.445,0.826 ; -1.664,-0.394 -1.664,0.394 ; -1.664,-0.394 -0.876,-0.394 ; -1.664,0.394 -0.876,0.394 ; -0.876,-0.394 -0.445,-0.826 ; -0.876,-0.394 -0.876,0.394 ; -0.876,0.394 -0.445,0.826 ; -0.445,-0.826 -0.445,0.826 ; 0.445,-0.826 0.876,-0.394 ; 0.445,-0.826 0.445,0.826 ; 0.445,-0.826 2.095,-0.826 ; 0.445,0.826 0.876,0.394 ; 0.445,0.826 2.095,0.826 ; 0.876,-0.394 0.876,0.394 ; 0.876,-0.394 1.664,-0.394 ; 0.876,0.394 1.664,0.394 ; 1.664,-0.394 2.095,-0.826 ; 1.664,-0.394 1.664,0.394 ; 1.664,0.394 2.095,0.826 ; 2.095,-0.826 2.095,0.826 ; 2.985,-0.826 3.416,-0.394 ; 2.985,-0.826 2.985,0.826 ; 2.985,-0.826 4.636,-0.826 ; 2.985,0.826 3.416,0.394 ; 2.985,0.826 4.636,0.826 ; 3.416,-0.394 3.416,0.394 ; 3.416,-0.394 4.204,-0.394 ; 3.416,0.394 4.204,0.394 ; 4.204,-0.394 4.636,-0.826 ; 4.204,-0.394 4.204,0.394 ; 4.204,0.394 4.636,0.826 ; 4.636,-0.826 4.636,0.826 ; -5.334,-1.206 -5.334,1.206 5.334,1.206 5.334,-1.206 -5.334,-1.206
3D body "SAMTEC_SSW-104-02-L-S.stp": height 8.51, standoff -4.93, extent -5.334,-1.206 5.334,1.207